# Altium schematic symbol library Switches.schlib: 3 symbols
Pins are listed as number, name and electrical type; pins without a type are passive.

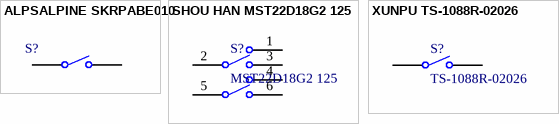
[diagram p0: symbols ALPSALPINE SKRPABE010 to XUNPU TS-1088R-02026]

## ALPSALPINE SKRPABE010
designator S?, comment SKRPABE010  (value not drawn)
Tactile Switch, SKRP, Top Actuated, Surface Mount, Oval Button, 157 gf, 50mA at 16VDC
footprint ALPSALPINE SKRPABE010; pin to pad 1>1+2 2>3+4
pins: 1, 2

## SHOU HAN MST22D18G2 125
designator S?, comment MST22D18G2 125
footprint SHOU HAN MST22D18G2 125 switch
pins: 1, 2, 3, 4, 5, 6

## XUNPU TS-1088R-02026
designator S?, comment TS-1088R-02026
footprint TS1088R02026
pins: 1, 2